# Altium footprint library PcbLib1.PcbLib: 1 footprints
Each footprint in its own frame and in the unit in brackets; x right, y up, seen from the top. Pads: shape width x height; smd on the part's side, far side on the other; paste and mask are expansions set on the pad; w line width, h text height; cw(c..) or ccw(c..) is an arc to the next point about the centre after c.
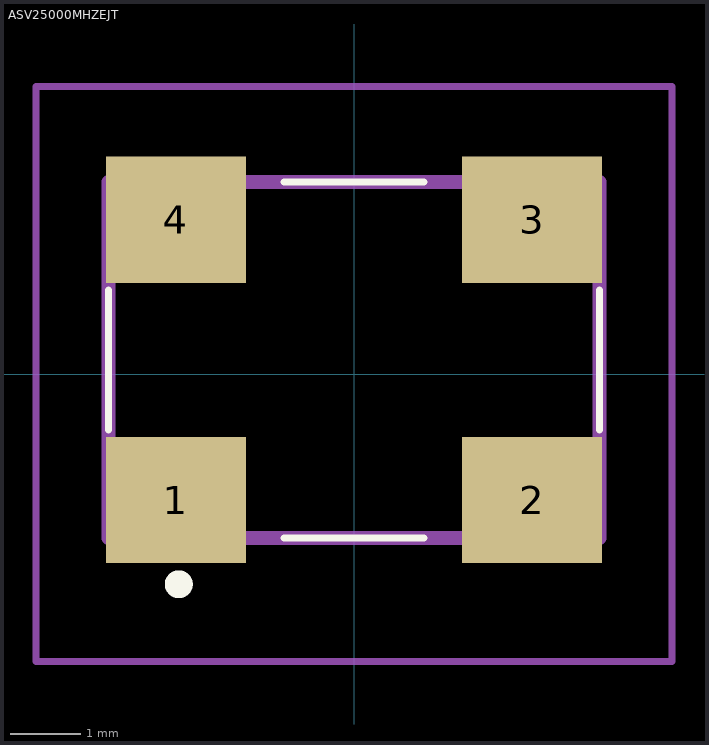
[diagram p0: the footprint, top view; thin cyan lines are the x and y axes]

## ASV25000MHZEJT [mm]
pads (4):
  rect 2x1.8 smd: 1(-2.54,-1.8) 2(2.54,-1.8) 3(2.54,2.2) 4(-2.54,2.2)
Top Overlay:
  lines w0.1: -3.5,-0.8 -3.5,1.2 ; -1,-2.34 1,-2.34 ; -1,2.74 1,2.74 ; 3.5,-0.8 3.5,1.2
  lines w0.2: -2.6,-3 cw(c-2.5,-3) -2.4,-3 cw(c-2.5,-3) -2.6,-3
Mechanical 13:
  lines w0.2: -3.5,-2.34 3.5,-2.34 3.5,2.74 -3.5,2.74 -3.5,-2.34
Mechanical 15:
  lines w0.1: -4.54,-4.1 4.54,-4.1 4.54,4.1 -4.54,4.1 -4.54,-4.1
3D body "ASV-50.000MHZ-LRS-T.stp": height 1.9, standoff 0, extent -3.5,-2.52 3.5,2.92